# Altium footprint library Full_lib.PcbLib: 247 footprints (part 5 of 16)
Each footprint in its own frame and in the unit in brackets; x right, y up, seen from the top. Pads: shape width x height; smd on the part's side, far side on the other; paste and mask are expansions set on the pad; w line width, h text height; cw(c..) or ccw(c..) is an arc to the next point about the centre after c.
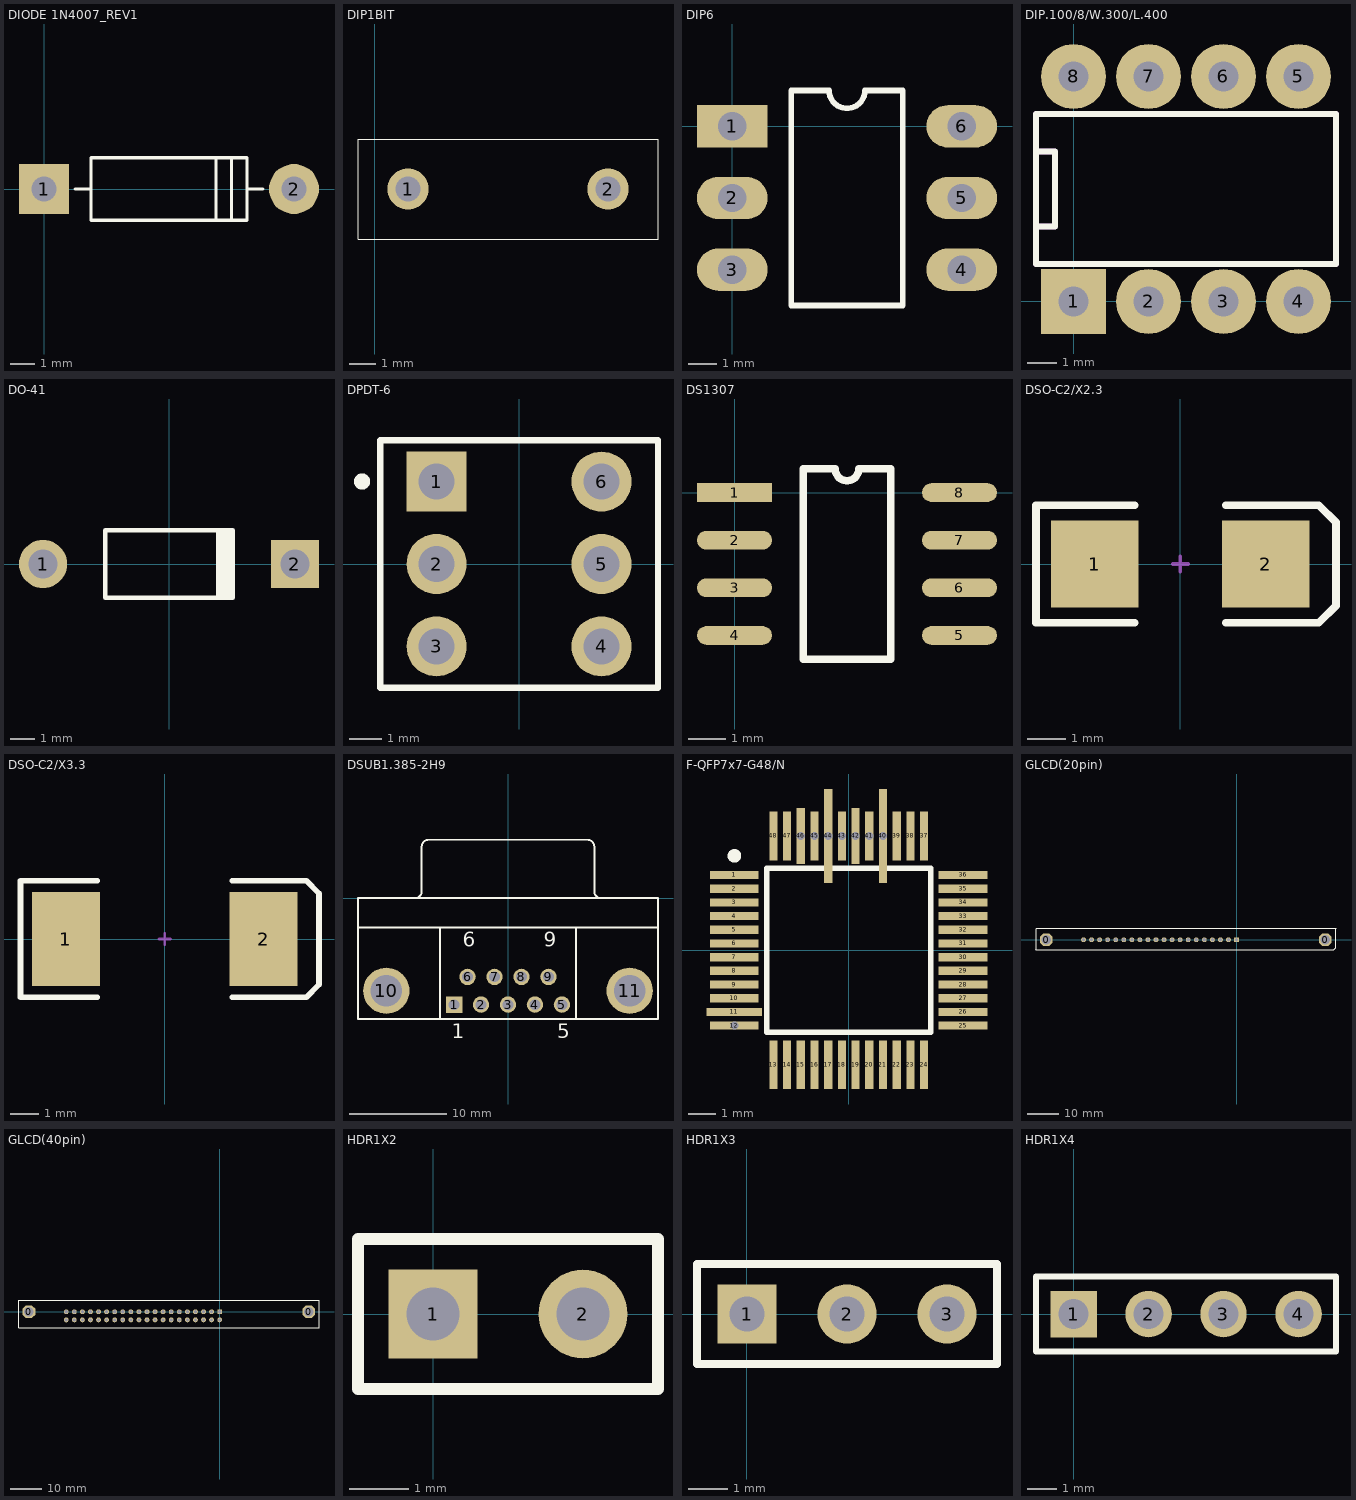
[diagram p4: the footprints below, top view; thin cyan lines are the x and y axes]

## DIODE 1N4007_REV1 [mil]
pads (2):
  rect 80x80 hole 40: 1(0,0)
  round 80 hole 40: 2(400,0)
Top Overlay:
  lines w5: 50,0 75,0 ; 275,-50 275,50 ; 300,-50 300,50 ; 325,0 350,0 ; 75,-50 325,-50 325,50 75,50 75,-50

## DIP1BIT [mil]
pads (2):
  round 62 hole 38: 1(50,250) 2(350,250)
Top Overlay:
  lines w1: -25,175 425,175 425,325 -25,325 -25,175

## DIP6 [mm]
pads (6):
  rect 2.5x1.5 hole 1: 1(0,0)
  oval 2.5x1.5 hole 1: 2(0,-2.54) 3(0,-5.08) 4(8.13,-5.08) 5(8.13,-2.54) 6(8.13,0)
Top Overlay:
  lines w0.2: 2.085,-6.35 2.085,1.27 3.43,1.27 ccw(c4.065,1.27) 4.7,1.27 6.045,1.27 6.045,-6.35 2.085,-6.35

## DIP.100/8/W.300/L.400 [mm]
pads (8):
  rect 2.2x2.2 hole 1: 1(0,0)
  round 2.2 hole 1: 2(2.54,0) 3(5.08,0) 4(7.62,0) 5(7.62,7.62) 6(5.08,7.62) 7(2.54,7.62) 8(0,7.62)
Top Overlay:
  lines w0.203: -1.27,2.54 -0.635,2.54 -0.635,5.08 -1.27,5.08 ; -1.27,1.27 8.89,1.27 8.89,6.35 -1.27,6.35 -1.27,1.27
Mechanical 1:
  lines w0.203: -1.27,2.54 -0.635,2.54 -0.635,5.08 -1.27,5.08 ; -1.27,1.27 8.89,1.27 8.89,6.35 -1.27,6.35 -1.27,1.27

## DO-41 [mm] "Diode, Axial; Body 5.2 x 2.7 mm (LxDia. max), Lead Dia. 0.86 mm (max)"
height 2.8
pads (2):
  round 2 hole 1.2: 1(-5.23,0)
  rect 2x2 hole 1.2: 2(5.23,0)
Top Overlay:
  rectangle: 1.949,-1.4 2.749,1.4
  lines w0.2: 2.65,-1.4 -2.65,-1.4 -2.65,1.4 2.65,1.4

## DPDT-6 [mm]
pads (6):
  rect 1.85x1.85 hole 1.1: 1(-2.54,2.54)
  round 1.85 hole 1.1: 2(-2.54,0) 3(-2.54,-2.54) 4(2.54,-2.54) 5(2.54,0) 6(2.54,2.54)
Top Overlay:
  circle w0.25: c-4.836,2.541 r0.125
  lines w0.2: -4.28,-3.81 4.28,-3.81 4.28,3.81 -4.28,3.81 -4.28,-3.81

## DS1307 [mm]
pads (8):
  rect 2x0.5 smd: 1(0,0)
  oval 2x0.5 smd: 2(0,-1.27) 3(0,-2.54) 4(0,-3.81) 5(6,-3.81) 6(6,-2.54) 7(6,-1.27) 8(6,0)
Top Overlay:
  lines w0.2: 1.835,-4.445 4.165,-4.445 4.165,0.635 3.317,0.635 cw(c3,0.635) 2.682,0.635 1.835,0.635 1.835,-4.445

## DSO-C2/X2.3 [mm] "DO-214-AA/SMB; 2 C-Bend Leads; Body 5.3 x 3.6 mm, inc. leads (LxW)"
height 2.54
pads (2):
  rect 2.3x2.3 smd: 1(-2.25,0) 2(2.25,0)
Top Overlay:
  lines w0.2: -1.2,-1.55 -3.8,-1.55 -3.8,1.55 -1.2,1.55 ; 1.2,-1.55 3.65,-1.55 4.1,-1.1 4.1,1.1 3.65,1.55 1.2,1.55
Mechanical 1:
  lines w0.1: -0.2,0 0.2,0 ; 0,-0.2 0,0.2

## DSO-C2/X3.3 [mm]
pads (2):
  rect 2.4x3.3 smd: 1(-3.475,0) 2(3.475,0)
Top Overlay:
  lines w0.2: -2.375,-2.05 -5.075,-2.05 -5.075,2.05 -2.375,2.05 ; 2.375,-2.05 4.975,-2.05 5.425,-1.6 5.425,1.6 4.975,2.055 ; 2.375,2.05 4.975,2.05
Mechanical 1:
  lines w0.1: -0.2,0 0.2,0 ; 0,-0.2 0,0.2

## DSUB1.385-2H9 [mm]
pads (11):
  rect 1.69x1.69 hole 1.09: 1(-5.54,-10.92)
  round 1.69 hole 1.09: 2(-2.77,-10.92) 3(0,-10.92) 4(2.77,-10.92) 5(5.54,-10.92) 6(-4.155,-8.08) 7(-1.385,-8.08) 8(1.385,-8.08) 9(4.155,-8.08)
  round 4.76 hole 3.26: 10(-12.495,-9.5) 11(12.495,-9.5)
Top Overlay:
  lines w0.2: -15.4,-3 15.4,-3 ; -9.56,0.005 ccw(c-9.56,0.7) -8.865,0.7 -8.865,5.3 ; -8.86,5.305 cw(c-8.165,5.305) -8.165,6 8.165,6 cw(c8.165,5.305) 8.86,5.305 ; -7,-12.4 -7,-3 ; 7,-12.4 7,-3 ; 8.865,5.3 8.865,0.7 ccw(c9.56,0.7) 9.56,0.005 ; -15.4,-12.4 15.4,-12.4 15.4,0 -15.4,0 -15.4,-12.4
  text "6" at -4.655,-4.975 h1.5
  text "9" at 3.655,-4.975 h1.5
  text "5" at 5.04,-14.375 h1.5
  text "1" at -5.79,-14.375 h1.5

## F-QFP7x7-G48/N [mm] "QFP; 48 Leads; Body 7 x 7 mm; Pitch 0.5 mm"
height 1.6
pads (48):
  rect 1.778x0.3 smd: 1(-4.175,2.75) 2(-4.175,2.25) 3(-4.175,1.75) 4(-4.175,1.25) 5(-4.175,0.75) 6(-4.175,0.25) 7(-4.175,-0.25) 8(-4.175,-0.75) 9(-4.175,-1.25) 10(-4.175,-1.75) 25(4.175,-2.75) 26(4.175,-2.25) 27(4.175,-1.75) 28(4.175,-1.25) 29(4.175,-0.75) 30(4.175,-0.25) 31(4.175,0.25) 32(4.175,0.75) 33(4.175,1.25) 34(4.175,1.75) 35(4.175,2.25) 36(4.175,2.75)
  rect 2.032x0.3 smd: 11(-4.175,-2.25)
  rect 1.778x0.3 hole 0.3: 12(-4.175,-2.75)
  rect 0.3x1.778 smd: 13(-2.75,-4.175) 14(-2.25,-4.175) 15(-1.75,-4.175) 16(-1.25,-4.175) 17(-0.75,-4.175) 18(-0.25,-4.175) 19(0.25,-4.175) 20(0.75,-4.175) 21(1.25,-4.175) 22(1.75,-4.175) 23(2.25,-4.175) 24(2.75,-4.175) 37(2.75,4.175) 38(2.25,4.175) 39(1.75,4.175) 47(-2.25,4.175) 48(-2.75,4.175)
  rect 0.3x3.429 hole 0.3: 40(1.25,4.175) 44(-0.75,4.175)
  rect 0.3x1.778 hole 0.3: 41(0.75,4.175) 43(-0.25,4.175) 45(-1.25,4.175)
  rect 0.3x2.032 hole 0.3: 42(0.25,4.175) 46(-1.75,4.175)
Top Overlay:
  circle w0.25: c-4.175,3.45 r0.125
  lines w0.2: -3,-3 -3,3 3,3 3,-3 -3,-3

## GLCD(20pin) [mil]
height 433.07
pads (22):
  oct 157.48x157.48 hole 118.11: 0(-2362.2,0) 0(1102.36,0)
  rect 60x60 hole 39.37: 1(0,0)
  round 60 hole 39.37: 2(-100,0) 3(-200,0) 4(-300,0) 5(-400,0) 6(-500,0) 7(-600,0) 8(-700,0) 9(-800,0) 10(-900,0) 11(-1000,0) 12(-1100,0) 13(-1200,0) 14(-1300,0) 15(-1400,0) 16(-1500,0) 17(-1600,0) 18(-1700,0) 19(-1800,0) 20(-1900,0)
Top Overlay:
  lines w10: -2485,140 -2485,-120 -2490,-125 1205,-125 1230,-100 1230,140 1235,145 -2485,145

## GLCD(40pin) [mil]
pads (42):
  oct 157.48x157.48 hole 118.11: 0(-2362.2,0) 0(1102.36,0)
  round 60 hole 39.37: 0(-1900,-100) 0(-1800,-100) 0(-1700,-100) 0(-1600,-100) 0(-1500,-100) 0(-1400,-100) 0(-1300,-100) 0(-1200,-100) 0(-1100,-100) 0(-1000,-100) 0(-900,-100) 0(-800,-100) 0(-700,-100) 0(-600,-100) 0(-500,-100) 0(-400,-100) 0(-300,-100) 0(-200,-100) 0(-100,-100) 0(0,-100) 2(-100,0) 3(-200,0) 4(-300,0) 5(-400,0) 6(-500,0) 7(-600,0) 8(-700,0) 9(-800,0) 10(-900,0) 11(-1000,0) 12(-1100,0) 13(-1200,0) 14(-1300,0) 15(-1400,0) 16(-1500,0) 17(-1600,0) 18(-1700,0) 19(-1800,0) 20(-1900,0)
  rect 60x60 hole 39.37: 1(0,0)
Top Overlay:
  lines w10: -2485,140 -2485,-120 -2485,-200 1230,-200 1230,140 1230,145 -2485,145

## HDR1X2 [mm] "Connector; Header; 2 Position"
height 3.9
pads (2):
  rect 1.5x1.5 hole 0.9: 1(0,0)
  round 1.5 hole 0.9: 2(2.54,0)
Top Overlay:
  lines w0.2: -1.27,-1.27 3.81,-1.27 3.81,1.27 -1.27,1.27 -1.27,-1.27

## HDR1X3 [mm] "Connector; Header; 3 Position"
height 3.9
pads (3):
  rect 1.5x1.5 hole 0.9: 1(0,0)
  round 1.5 hole 0.9: 2(2.54,0) 3(5.08,0)
Top Overlay:
  lines w0.2: -1.27,-1.27 -1.27,1.27 6.35,1.27 6.35,-1.27 -1.27,-1.27

## HDR1X4 [mil]
pads (4):
  rect 62x62 hole 40: 1(0,0)
  round 62 hole 40: 2(100,0) 3(200,0) 4(300,0)
Top Overlay:
  lines w8: -50,-50 350,-50 350,50 -50,50 -50,-50